# Altium footprint library HPA01164RUTR.PcbLib: 1 footprints
Each footprint in its own frame and in the unit in brackets; x right, y up, seen from the top. Pads: shape width x height; smd on the part's side, far side on the other; paste and mask are expansions set on the pad; w line width, h text height; cw(c..) or ccw(c..) is an arc to the next point about the centre after c.
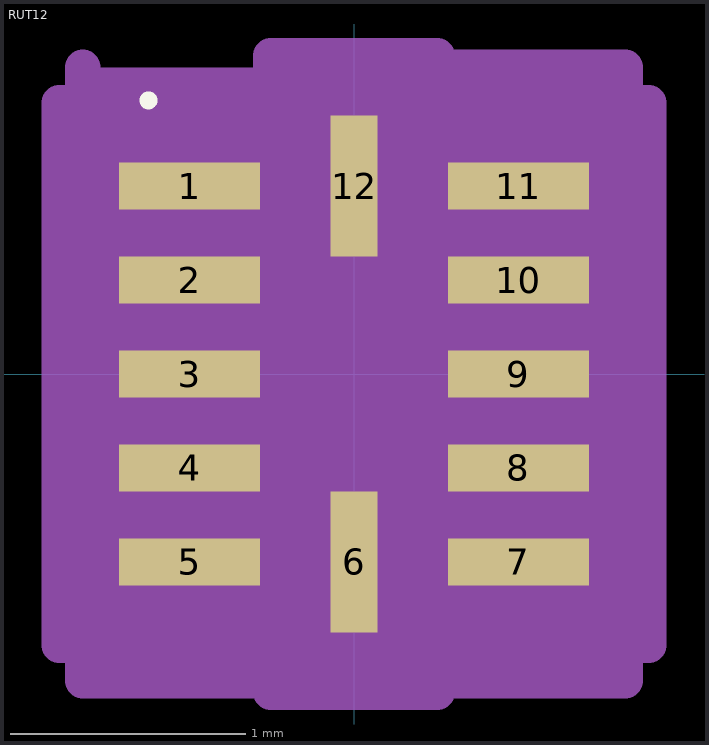
[diagram p0: the footprint, top view; thin cyan lines are the x and y axes]

## RUT12 [mm]
pads (12):
  rect 0.6x0.2 smd paste+0 mask+0: 1(-0.7,0.8) 2(-0.7,0.4) 3(-0.7,0) 4(-0.7,-0.4) 5(-0.7,-0.8) 7(0.7,-0.8) 8(0.7,-0.4) 9(0.7,0) 10(0.7,0.4) 11(0.7,0.8)
  rect 0.2x0.6 smd paste+0 mask+0: 6(0,-0.8) 12(0,0.8)
Top Overlay:
  circle w0.051: c-0.875,1.164 r0.013
Mechanical 13:
  lines w0.025: -0.9,-0.22 0.37,1.05 ; -0.9,-1.05 -0.9,1.05 0.9,1.05 0.9,-1.05 -0.9,-1.05
Mechanical 15:
  region: -0.354,-1.304 -1.154,-1.304 -1.154,-1.154 -1.254,-1.154 -1.254,1.154 -1.154,1.154 -1.154,1.304 -0.354,1.304 -0.354,1.354 0.354,1.354 0.354,1.304 1.154,1.304 1.154,1.154 1.254,1.154 1.254,-1.154 1.154,-1.154 1.154,-1.304 0.354,-1.304 0.354,-1.354 -0.354,-1.354
  lines w0.152: -1.154,1.153 -0.354,1.153 ; -1.154,1.304 -1.154,1.154 -1.254,1.154 -1.254,-1.154 -1.154,-1.154 -1.154,-1.304 -0.354,-1.304 -0.354,-1.354 0.354,-1.354 0.354,-1.304 1.154,-1.304 1.154,-1.154 1.254,-1.154 1.254,1.154 1.154,1.154 1.154,1.304 0.354,1.304 0.354,1.354 -0.354,1.354 -0.354,1.304
3D body "RUT12_TEX.step": height 0.6, standoff 0, extent -0.951,-1.101 0.951,1.101